# Altium footprint library Gan_cuk converter (2).PcbLib: 26 footprints (part 2 of 2)
Each footprint in its own frame and in the unit in brackets; x right, y up, seen from the top. Pads: shape width x height; smd on the part's side, far side on the other; paste and mask are expansions set on the pad; w line width, h text height; cw(c..) or ccw(c..) is an arc to the next point about the centre after c.
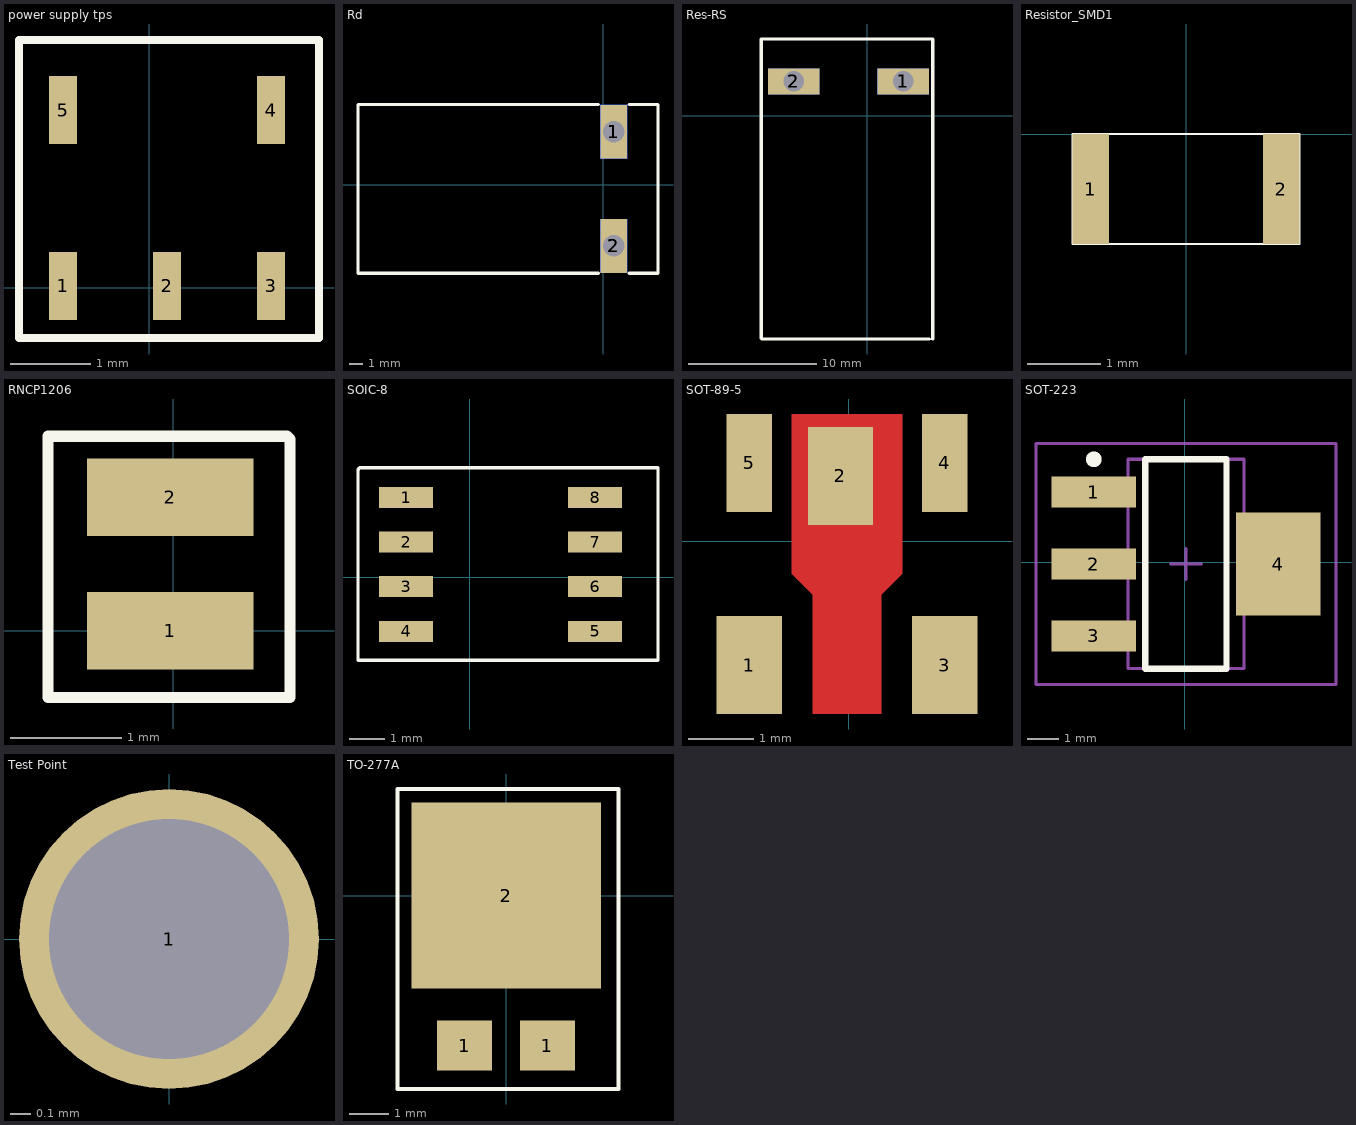
[diagram p1: the footprints below, top view; thin cyan lines are the x and y axes]

## power supply tps [mm]
pads (5):
  rect 0.35x0.85 smd: 1(-1.075,0.025) 2(0.225,0.025) 3(1.525,0.025) 4(1.525,2.225) 5(-1.075,2.225)
Top Overlay:
  lines w0.1: -1.625,-0.625 2.125,-0.625 2.125,3.1 -1.625,3.1 -1.625,-0.625

## Rd [mm]
pads (6):
  rect 2x2 hole 1.6: 1(0.789,3.937) 2(0.789,-4.572)
  rect 2x4 smd far side: 1(0.789,3.937) 2(0.789,-4.572)
  rect 2x4 smd: 1(0.789,3.937) 2(0.789,-4.572)
Top Overlay:
  lines w0.1: -18.269,-6.625 -18.248,-6.604
  lines w0.254: -18.269,-6.625 -18.269,5.969 -2.513,5.969 -0.354,5.969 ; -18.248,-6.604 -2.513,-6.604 -0.354,-6.604 ; 1.932,-6.604 4.091,-6.604 4.091,5.969 1.932,5.969

## Res-RS [mm]
pads (6):
  rect 2x2 hole 1.6: 1(2.794,2.667) 2(-5.715,2.667)
  rect 4x2 smd: 1(2.794,2.667) 2(-5.715,2.667)
  rect 4x2 smd far side: 1(2.794,2.667) 2(-5.715,2.667)
Top Overlay:
  lines w0.1: -8.25,-17.325 -8.2,-17.375 ; 4.825,-17.375 4.826,-17.374 ; 4.827,-17.375 5.075,-17.375 5.1,-17.35
  lines w0.254: -8.25,-17.325 -8.25,1.675 -8.25,5.969 5.1,5.969 5.1,3.81 5.1,-17.35 ; -8.2,-17.375 -7.744,-17.375 -1.1,-17.375 4.825,-17.375

## Resistor_SMD1 [mm] "RES SMD 392 OHM 1% 1/2W 1206"
pads (2):
  rect 0.5x1.5 smd: 1(-1.3,-0.75) 2(1.3,-0.75)
Top Overlay:
  lines w0.025: 0,0 -1.55,0 ; -1.55,0 1.55,0 1.55,-1.5 -1.55,-1.5 -1.55,0

## RNCP1206 [mm]
pads (2):
  rect 1.5x0.7 smd: 1(-0.025,0) 2(-0.025,1.2)
Top Overlay:
  lines w0.1: -1.125,-0.6 -1.125,1.75 1.025,1.75 1.05,1.725 1.05,-0.6 -1.125,-0.6

## SOIC-8 [mm]
pads (8):
  rect 1.55x0.6 smd: 1(-1.825,2.275) 2(-1.825,1) 3(-1.825,-0.275) 4(-1.825,-1.55) 5(3.575,-1.55) 6(3.575,-0.275) 7(3.575,1) 8(3.575,2.275)
Top Overlay:
  lines w0.1: -3.2,-2.375 -3.2,3.075 -3.15,3.125 5.375,3.125 5.375,-2.375 -3.2,-2.375

## SOT-89-5 [mm]
pads (5):
  rect 1x1.5 smd: 1(-1.525,-1.9) 2(-0.125,1) 3(1.475,-1.9)
  rect 0.7x1.5 smd: 4(1.475,1.2) 5(-1.525,1.2)
Top Layer:
  region: 0.5,-2.65 -0.55,-2.65 -0.55,-0.825 -0.875,-0.5 -0.875,1.95 0.825,1.95 0.825,-0.5 0.5,-0.825

## SOT-223 [mm]
pads (4):
  rect 2.7x1 smd: 1(-2.914,2.248) 2(-2.914,-0.052) 3(-2.914,-2.352)
  rect 2.7x3.3 smd: 4(2.986,-0.052)
Top Overlay:
  circle w0.25: c-2.914,3.298 r0.125
  lines w0.2: -1.264,-3.402 1.336,-3.402 1.336,3.298 -1.264,3.298 -1.264,-3.402
Mechanical 13:
  lines w0.1: -1.814,-3.402 1.886,-3.402 1.886,3.298 -1.814,3.298 -1.814,-3.402
Mechanical 15:
  lines w0.1: -0.464,-0.052 0.536,-0.052 ; 0.036,-0.552 0.036,0.448 ; -4.764,-3.902 4.836,-3.902 4.836,3.798 -4.764,3.798 -4.764,-3.902
3D body: height 1.8, standoff 0, extent -1.814,-3.402 1.886,3.298

## Test Point [mm]
pads (1):
  round 1.5 hole 1.2: 1(0,0)
3D body: height 5.08, standoff 0, extent -0.63,-0.634 0.635,0.634

## TO-277A [mm] "Diode"
height 1.2
pads (3):
  rect 1.4x1.27 smd: 1(-1.05,-3.8) 1(1.05,-3.8)
  rect 4.8x4.72 smd: 2(0,0)
Top Overlay:
  lines w0.1: -2.75,-4.9 2.85,-4.9 2.85,2.7 -2.75,2.7 -2.75,-4.65 -2.75,-4.9